# Altium schematic symbol library MPX1D1250L150.SchLib: 1 symbol
Pins are listed as number, name and electrical type; pins without a type are passive.

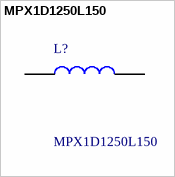
[diagram p0: symbol MPX1D1250L150]

## MPX1D1250L150
designator L?
KEMET, MPX, Power, 15 uH, 20%, 155C, -55C, 1250(5350), 8.2 A, 30.8 mOhms, 7 MHz, 250, 13.2mm, 13.6mm, 12.5mm, 12.7mm, 5mm, 5mm; Mouser Part Number: 80-MPX1D1250L150; Mouser Price/Stock: https://www.mouser.co.uk/ProductDetail/KEMET/MPX1D1250L150?qs=P1JMDcb91o4lI77BLUwjCw%3D%3D; Manufacturer_Name: KEMET; Manufacturer_Part_Number: MPX1D1250L150; Datasheet Link: https://content.kemet.com/datasheets/KEM_L9012_MPX.pdf; Geometry.Height: 5mm
footprint MPX1D1250L150
pins: 1, 2